# EAGLE library part TUSB8041-Q1 (library Texas Instruments)
Automotive Four-Port USB 3.0 Hub
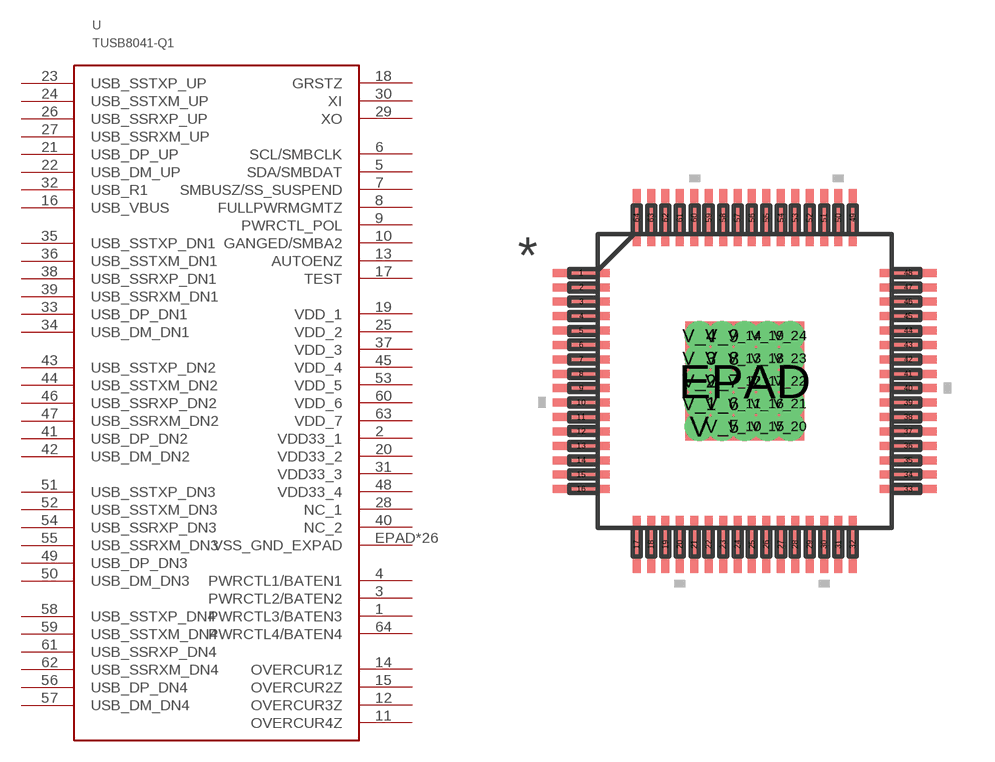
[diagram p24: symbol with the pads of PJD64_4P15X4P15-M; footprint PJD64_4P15X4P15-M]

Designator prefix U

## TUSB8041-Q1  [PJD64_4P15X4P15-M]
1  PWRCTL3/BATEN3
2  VDD33_1  pwr
3  PWRCTL2/BATEN2
4  PWRCTL1/BATEN1
5  SDA/SMBDAT
6  SCL/SMBCLK
7  SMBUSZ/SS_SUSPEND
8  FULLPWRMGMTZ
9  PWRCTL_POL
10  GANGED/SMBA2
11  OVERCUR4Z  in
12  OVERCUR3Z  in
13  AUTOENZ
14  OVERCUR1Z  in
15  OVERCUR2Z  in
16  USB_VBUS  in
17  TEST  in
18  GRSTZ  in
19  VDD_1  pwr
20  VDD33_2  pwr
21  USB_DP_UP
22  USB_DM_UP
23  USB_SSTXP_UP  out
24  USB_SSTXM_UP  out
25  VDD_2  pwr
26  USB_SSRXP_UP  in
27  USB_SSRXM_UP  in
28  NC_1  nc
29  XO  out
30  XI  in
31  VDD33_3  pwr
32  USB_R1  in
33  USB_DP_DN1
34  USB_DM_DN1
35  USB_SSTXP_DN1  out
36  USB_SSTXM_DN1  out
37  VDD_3  pwr
38  USB_SSRXP_DN1  in
39  USB_SSRXM_DN1  in
40  NC_2  nc
41  USB_DP_DN2
42  USB_DM_DN2
43  USB_SSTXP_DN2  out
44  USB_SSTXM_DN2  out
45  VDD_4  pwr
46  USB_SSRXP_DN2  in
47  USB_SSRXM_DN2  in
48  VDD33_4  pwr
49  USB_DP_DN3
50  USB_DM_DN3
51  USB_SSTXP_DN3  out
52  USB_SSTXM_DN3  out
53  VDD_5  pwr
54  USB_SSRXP_DN3  in
55  USB_SSRXM_DN3  in
56  USB_DP_DN4
57  USB_DM_DN4
58  USB_SSTXP_DN4  out
59  USB_SSTXM_DN4  out
60  VDD_6  pwr
61  USB_SSRXP_DN4  in
62  USB_SSRXM_DN4  in
63  VDD_7  pwr
64  PWRCTL4/BATEN4
EPAD  VSS_GND_EXPAD  pwr
V  VSS_GND_EXPAD  pwr
V_1  VSS_GND_EXPAD  pwr
V_2  VSS_GND_EXPAD  pwr
V_3  VSS_GND_EXPAD  pwr
V_4  VSS_GND_EXPAD  pwr
V_5  VSS_GND_EXPAD  pwr
V_6  VSS_GND_EXPAD  pwr
V_7  VSS_GND_EXPAD  pwr
V_8  VSS_GND_EXPAD  pwr
V_9  VSS_GND_EXPAD  pwr
V_10  VSS_GND_EXPAD  pwr
V_11  VSS_GND_EXPAD  pwr
V_12  VSS_GND_EXPAD  pwr
V_13  VSS_GND_EXPAD  pwr
V_14  VSS_GND_EXPAD  pwr
V_15  VSS_GND_EXPAD  pwr
V_16  VSS_GND_EXPAD  pwr
V_17  VSS_GND_EXPAD  pwr
V_18  VSS_GND_EXPAD  pwr
V_19  VSS_GND_EXPAD  pwr
V_20  VSS_GND_EXPAD  pwr
V_21  VSS_GND_EXPAD  pwr
V_22  VSS_GND_EXPAD  pwr
V_23  VSS_GND_EXPAD  pwr
V_24  VSS_GND_EXPAD  pwr

## Footprint PJD64_4P15X4P15-M (pad centres in mm)
smd 1.981 x 0.279: 1 -5.671,3.75; 2 -5.671,3.25; 3 -5.671,2.75; 4 -5.671,2.25; 5 -5.671,1.75; 6 -5.671,1.25; 7 -5.671,0.75; 8 -5.671,0.25; 9 -5.671,-0.25; 10 -5.671,-0.75; 11 -5.671,-1.25; 12 -5.671,-1.75; 13 -5.671,-2.25; 14 -5.671,-2.75; 15 -5.671,-3.25; 16 -5.671,-3.75; 33 5.671,-3.75; 34 5.671,-3.25; 35 5.671,-2.75; 36 5.671,-2.25; 37 5.671,-1.75; 38 5.671,-1.25; 39 5.671,-0.75; 40 5.671,-0.25; 41 5.671,0.25; 42 5.671,0.75; 43 5.671,1.25; 44 5.671,1.75; 45 5.671,2.25; 46 5.671,2.75; 47 5.671,3.25; 48 5.671,3.75
smd 0.279 x 1.981: 17 -3.75,-5.671; 18 -3.25,-5.671; 19 -2.75,-5.671; 20 -2.25,-5.671; 21 -1.75,-5.671; 22 -1.25,-5.671; 23 -0.75,-5.671; 24 -0.25,-5.671; 25 0.25,-5.671; 26 0.75,-5.671; 27 1.25,-5.671; 28 1.75,-5.671; 29 2.25,-5.671; 30 2.75,-5.671; 31 3.25,-5.671; 32 3.75,-5.671; 49 3.75,5.671; 50 3.25,5.671; 51 2.75,5.671; 52 2.25,5.671; 53 1.75,5.671; 54 1.25,5.671; 55 0.75,5.671; 56 0.25,5.671; 57 -0.25,5.671; 58 -0.75,5.671; 59 -1.25,5.671; 60 -1.75,5.671; 61 -2.25,5.671; 62 -2.75,5.671; 63 -3.25,5.671; 64 -3.75,5.671
smd 4.14 x 4.14: EPAD 0,0
drill 0.508: V -1.575,-1.575; V_1 -1.575,-0.787; V_2 -1.575,0; V_3 -1.575,0.787; V_4 -1.575,1.575; V_5 -0.787,-1.575; V_6 -0.787,-0.787; V_7 -0.787,0; V_8 -0.787,0.787; V_9 -0.787,1.575; V_10 0,-1.575; V_11 0,-0.787; V_12 0,0; V_13 0,0.787; V_14 0,1.575; V_15 0.787,-1.575; V_16 0.787,-0.787; V_17 0.787,0; V_18 0.787,0.787; V_19 0.787,1.575; V_20 1.575,-1.575; V_21 1.575,-0.787; V_22 1.575,0; V_23 1.575,0.787; V_24 1.575,1.575